# EAGLE library part STM32F103RCTX (library Semiconductors > Embedded Processors & Controllers > Microcontrollers - MCU)
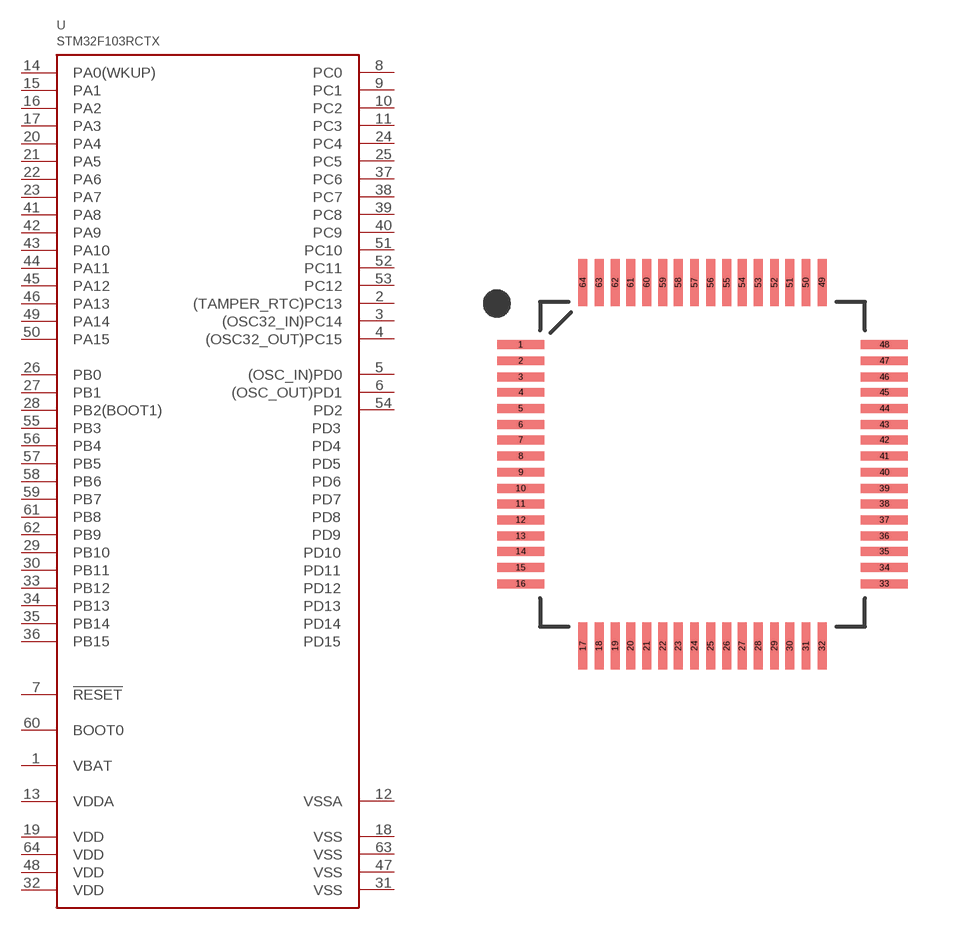
[diagram p17: symbol with the pads of QFP64; footprint QFP64]

Designator prefix U

## STM32F103RCTX  [QFP64]
1  VBAT  in
2  (TAMPER_RTC)PC13  in
3  (OSC32_IN)PC14  in
4  (OSC32_OUT)PC15  out
5  (OSC_IN)PD0  in
6  (OSC_OUT)PD1  out
7  !RESET  out
8  PC0
9  PC1
10  PC2
11  PC3
12  VSSA  pas
13  VDDA  pwr
14  PA0(WKUP)
15  PA1
16  PA2
17  PA3
18  VSS  pas
19  VDD  pwr
20  PA4
21  PA5
22  PA6
23  PA7
24  PC4  pas
25  PC5
26  PB0
27  PB1
28  PB2(BOOT1)
29  PB10
30  PB11
31  VSS  pas
32  VDD  pwr
33  PB12
34  PB13
35  PB14
36  PB15
37  PC6
38  PC7
39  PC8
40  PC9
41  PA8
42  PA9
43  PA10
44  PA11
45  PA12
46  PA13
47  VSS  pas
48  VDD  pwr
49  PA14
50  PA15
51  PC10
52  PC11
53  PC12
54  PD2
55  PB3
56  PB4
57  PB5
58  PB6
59  PB7
60  BOOT0  pas
61  PB8
62  PB9
63  VSS  pas
64  VDD  pwr

## Footprint QFP64 (pad centres in mm)
smd 1.473 x 0.279: 1 -5.715,3.759; 2 -5.715,3.251; 3 -5.715,2.743; 4 -5.715,2.261; 5 -5.715,1.753; 6 -5.715,1.245; 7 -5.715,0.762; 8 -5.715,0.254; 9 -5.715,-0.254; 10 -5.715,-0.762; 11 -5.715,-1.245; 12 -5.715,-1.753; 13 -5.715,-2.261; 14 -5.715,-2.743; 15 -5.715,-3.251; 16 -5.715,-3.759; 33 5.715,-3.759; 34 5.715,-3.251; 35 5.715,-2.743; 36 5.715,-2.261; 37 5.715,-1.753; 38 5.715,-1.245; 39 5.715,-0.762; 40 5.715,-0.254; 41 5.715,0.254; 42 5.715,0.762; 43 5.715,1.245; 44 5.715,1.753; 45 5.715,2.261; 46 5.715,2.743; 47 5.715,3.251; 48 5.715,3.759
smd 0.279 x 1.473: 17 -3.759,-5.715; 18 -3.251,-5.715; 19 -2.743,-5.715; 20 -2.261,-5.715; 21 -1.753,-5.715; 22 -1.245,-5.715; 23 -0.762,-5.715; 24 -0.254,-5.715; 25 0.254,-5.715; 26 0.762,-5.715; 27 1.245,-5.715; 28 1.753,-5.715; 29 2.261,-5.715; 30 2.743,-5.715; 31 3.251,-5.715; 32 3.759,-5.715; 49 3.759,5.715; 50 3.251,5.715; 51 2.743,5.715; 52 2.261,5.715; 53 1.753,5.715; 54 1.245,5.715; 55 0.762,5.715; 56 0.254,5.715; 57 -0.254,5.715; 58 -0.762,5.715; 59 -1.245,5.715; 60 -1.753,5.715; 61 -2.261,5.715; 62 -2.743,5.715; 63 -3.251,5.715; 64 -3.759,5.715